# Altium schematic symbol library 150060VS75000.SchLib: 1 symbol
Pins are listed as number, name and electrical type; pins without a type are passive.

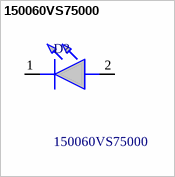
[diagram p0: symbol 150060VS75000]

## 150060VS75000
designator D?
2.4 V Green LED 1608 (0603) SMD, Wurth Elektronik WL-SMCW 150060VS75000; Geometry.Height: 0.8mm; Manufacturer_Name: Wurth Elektronik; Manufacturer_Part_Number: 150060VS75000; Mouser Part Number: 710-150060VS75000; Mouser Price/Stock: https://www.mouser.co.uk/ProductDetail/Wurth-Elektronik/150060VS75000?qs=LlUlMxKIyB1Q1Bi5mQ%2FKLw%3D%3D; Arrow Part Number: *; Arrow Price/Stock: *; Datasheet Link: https://componentsearchengine.com/Datasheets/2/150060VS75000.pdf
footprint LEDC1608X80N
pins: 1 K, 2 A